# Altium schematic symbol library switches.SchLib: 3 symbols
Pins are listed as number, name and electrical type; pins without a type are passive.

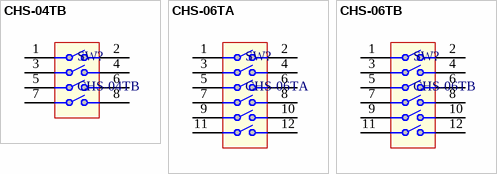
[diagram p0: symbols CHS-04TB to CHS-06TB]

## CHS-04TB
designator SW?
SLIDE SWITCHES; Supplier 1: Digi-Key; Supplier Part Number 1: 563-1008-1-ND
footprint CHS04TB (4 POS DIP SWITCH)
pins: 1, 2, 3, 4, 5, 6, 7, 8

## CHS-06TA
designator SW?
SLIDE SWITCHES; Supplier 1: Digi-Key; Supplier Part Number 1: 563-1009-1-ND
footprint CHS-06TA (6 POS DIP SWITCH)
pins: 1, 2, 3, 4, 5, 6, 7, 8, 9, 10, 11, 12

## CHS-06TB
designator SW?
SLIDE SWITCHES; Supplier 1: Digi-Key; Supplier Part Number 1: 563-1010-1-ND
footprint CHS-06TB (6 POS DIP SWITCH)
pins: 1, 2, 3, 4, 5, 6, 7, 8, 9, 10, 11, 12